# Altium schematic symbol library WCAP-ATET.SchLib: 72 symbols (part 2 of 2)
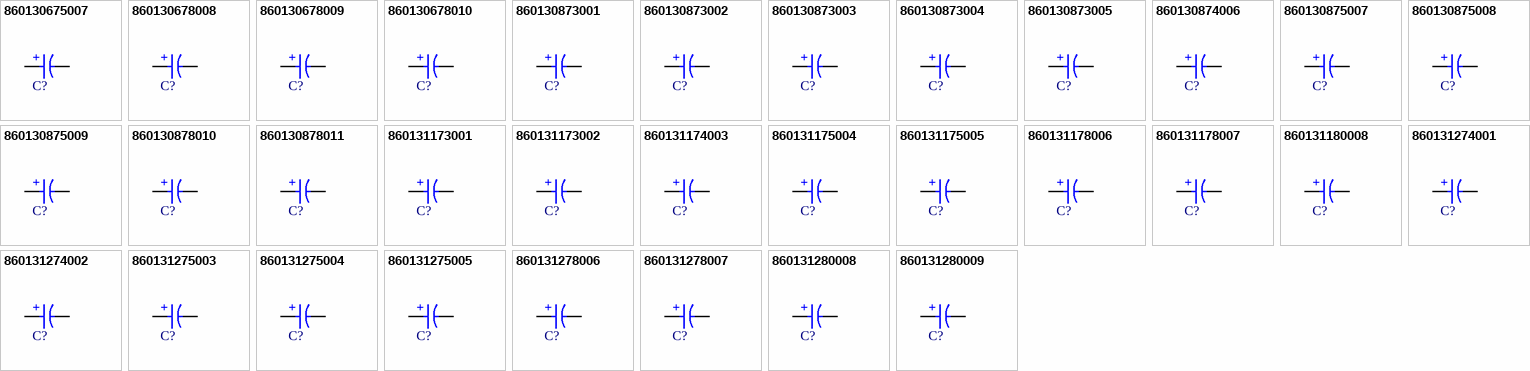
[diagram p2: symbols 860130675007 to 860131280009]

## 860130875008
designator C?, comment 33µF  (value not drawn)
WCAP-ATET Aluminum Electrolytic Capacitor, Radial, THT, D10 x H16mm, 33µF, 100V; Manufacturer Part Number: 860130875008; Manufacturer: Wurth Elektronik; Capacitance Tolerance: +/-20%; Dissipation Factor: 7%; Endurance: 2000h; Leakage Current: 33µA; Ripple Current: 140mA; Technical Reference: ATGF160330M100DSPAAB000; Category: Aluminum Electrolytic Capacitors; Match Code: WCAP-ATET; ComponentLink1Description: Website Link; ComponentLink1URL: https://www.we-online.com/redexpert/article/860130875008?ad; ComponentLink2Description: Datasheet Link; ComponentLink2URL: https://www.we-online.com/redexpert/spec/860130875008?ad; Mount: Through Hole; Operating Temperature Max: 125°C; Operating Temperature Min: -40°C; Packaging: Ammo Pack; Height: 16mm; Diameter: 10mm; Capacitance: 33µF; Rated Voltage (DC): 100V
footprint WCAP-ATET_D10H16
simulation model 860130875008_33uF
pins: 1 P, 2 N
text: +

## 860130875009
designator C?, comment 47µF  (value not drawn)
WCAP-ATET Aluminum Electrolytic Capacitor, Radial, THT, D10 x H25mm, 47µF, 100V; Manufacturer Part Number: 860130875009; Manufacturer: Wurth Elektronik; Capacitance Tolerance: +/-20%; Dissipation Factor: 7%; Endurance: 2000h; Leakage Current: 47µA; Ripple Current: 175mA; Technical Reference: ATGF250470M100DSPAAB000; Category: Aluminum Electrolytic Capacitors; Match Code: WCAP-ATET; ComponentLink1Description: Website Link; ComponentLink1URL: https://www.we-online.com/redexpert/article/860130875009?ad; ComponentLink2Description: Datasheet Link; ComponentLink2URL: https://www.we-online.com/redexpert/spec/860130875009?ad; Mount: Through Hole; Operating Temperature Max: 125°C; Operating Temperature Min: -40°C; Packaging: Ammo Pack; Height: 25mm; Diameter: 10mm; Capacitance: 47µF; Rated Voltage (DC): 100V
footprint WCAP-ATET_D10H25
simulation model 860130875009_47uF
pins: 1 P, 2 N
text: +

## 860130878010
designator C?, comment 47µF  (value not drawn)
WCAP-ATET Aluminum Electrolytic Capacitor, Radial, THT, D13 x H20mm, 47µF, 100V; Manufacturer Part Number: 860130878010; Manufacturer: Wurth Elektronik; Capacitance Tolerance: +/-20%; Dissipation Factor: 7%; Endurance: 2000h; Leakage Current: 47µA; Ripple Current: 185mA; Technical Reference: ATGI200470M100DSPACB000; Category: Aluminum Electrolytic Capacitors; Match Code: WCAP-ATET; ComponentLink1Description: Website Link; ComponentLink1URL: https://www.we-online.com/redexpert/article/860130878010?ad; ComponentLink2Description: Datasheet Link; ComponentLink2URL: https://www.we-online.com/redexpert/spec/860130878010?ad; Mount: Through Hole; Operating Temperature Max: 125°C; Operating Temperature Min: -40°C; Packaging: Ammo Pack; Height: 20mm; Diameter: 13mm; Capacitance: 47µF; Rated Voltage (DC): 100V
footprint WCAP-ATET_D13H20
simulation model 860130878010_47uF
pins: 1 P, 2 N
text: +

## 860130878011
designator C?, comment 100µF  (value not drawn)
WCAP-ATET Aluminum Electrolytic Capacitor, Radial, THT, D13 x H25mm, 100µF, 100V; Manufacturer Part Number: 860130878011; Manufacturer: Wurth Elektronik; Capacitance Tolerance: +/-20%; Dissipation Factor: 7%; Endurance: 2000h; Leakage Current: 100µA; Ripple Current: 270mA; Technical Reference: ATGI250101M100DSPACB000; Category: Aluminum Electrolytic Capacitors; Match Code: WCAP-ATET; ComponentLink1Description: Website Link; ComponentLink1URL: https://www.we-online.com/redexpert/article/860130878011?ad; ComponentLink2Description: Datasheet Link; ComponentLink2URL: https://www.we-online.com/redexpert/spec/860130878011?ad; Mount: Through Hole; Operating Temperature Max: 125°C; Operating Temperature Min: -40°C; Packaging: Ammo Pack; Height: 25mm; Diameter: 13mm; Capacitance: 100µF; Rated Voltage (DC): 100V
footprint WCAP-ATET_D13H25
simulation model 860130878011_100uF
pins: 1 P, 2 N
text: +

## 860131173001
designator C?, comment 1µF  (value not drawn)
WCAP-ATET Aluminum Electrolytic Capacitor, Radial, THT, D6.3 x H11mm, 1µF, 250V; Manufacturer Part Number: 860131173001; Manufacturer: Wurth Elektronik; Capacitance Tolerance: +/-20%; Dissipation Factor: 10%; Endurance: 1000h; Leakage Current: 5µA; Ripple Current: 41mA; Technical Reference: ATCD110010M250DSPA4A000; Category: Aluminum Electrolytic Capacitors; Match Code: WCAP-ATET; ComponentLink1Description: Website Link; ComponentLink1URL: https://www.we-online.com/redexpert/article/860131173001?ad; ComponentLink2Description: Datasheet Link; ComponentLink2URL: https://www.we-online.com/redexpert/spec/860131173001?ad; Mount: Through Hole; Operating Temperature Max: 105°C; Operating Temperature Min: -25°C; Packaging: Ammo Pack; Height: 11mm; Diameter: 6.3mm; Capacitance: 1µF; Rated Voltage (DC): 250V
footprint WCAP-ATET_D6.3H11
simulation model 860131173001_1uF
pins: 1 P, 2 N
text: +

## 860131173002
designator C?, comment 2.2µF  (value not drawn)
WCAP-ATET Aluminum Electrolytic Capacitor, Radial, THT, D6.3 x H11mm, 2.2µF, 250V; Manufacturer Part Number: 860131173002; Manufacturer: Wurth Elektronik; Capacitance Tolerance: +/-20%; Dissipation Factor: 10%; Endurance: 1000h; Leakage Current: 11µA; Ripple Current: 42mA; Technical Reference: ATCD1102R2M250DSPA4A000; Category: Aluminum Electrolytic Capacitors; Match Code: WCAP-ATET; ComponentLink1Description: Website Link; ComponentLink1URL: https://www.we-online.com/redexpert/article/860131173002?ad; ComponentLink2Description: Datasheet Link; ComponentLink2URL: https://www.we-online.com/redexpert/spec/860131173002?ad; Mount: Through Hole; Operating Temperature Max: 105°C; Operating Temperature Min: -25°C; Packaging: Ammo Pack; Height: 11mm; Diameter: 6.3mm; Capacitance: 2.2µF; Rated Voltage (DC): 250V
footprint WCAP-ATET_D6.3H11
simulation model 860131173002_2.2uF
pins: 1 P, 2 N
text: +

## 860131174003
designator C?, comment 3.3µF  (value not drawn)
WCAP-ATET Aluminum Electrolytic Capacitor, Radial, THT, D8 x H11.5mm, 3.3µF, 250V; Manufacturer Part Number: 860131174003; Manufacturer: Wurth Elektronik; Capacitance Tolerance: +/-20%; Dissipation Factor: 10%; Endurance: 1000h; Leakage Current: 16.5µA; Ripple Current: 50mA; Technical Reference: ATCE1153R3M250DSPA7A000; Category: Aluminum Electrolytic Capacitors; Match Code: WCAP-ATET; ComponentLink1Description: Website Link; ComponentLink1URL: https://www.we-online.com/redexpert/article/860131174003?ad; ComponentLink2Description: Datasheet Link; ComponentLink2URL: https://www.we-online.com/redexpert/spec/860131174003?ad; Mount: Through Hole; Operating Temperature Max: 105°C; Operating Temperature Min: -25°C; Packaging: Ammo Pack; Height: 11.5mm; Diameter: 8mm; Capacitance: 3.3µF; Rated Voltage (DC): 250V
footprint WCAP-ATET_D8H11.5
simulation model 860131174003_3.3uF
pins: 1 P, 2 N
text: +

## 860131175004
designator C?, comment 4.7µF  (value not drawn)
WCAP-ATET Aluminum Electrolytic Capacitor, Radial, THT, D10 x H12.5mm, 4.7µF, 250V; Manufacturer Part Number: 860131175004; Manufacturer: Wurth Elektronik; Capacitance Tolerance: +/-20%; Dissipation Factor: 10%; Endurance: 2000h; Leakage Current: 23.5µA; Ripple Current: 60mA; Technical Reference: ATCF1254R7M250DSPA9B000; Category: Aluminum Electrolytic Capacitors; Match Code: WCAP-ATET; ComponentLink1Description: Website Link; ComponentLink1URL: https://www.we-online.com/redexpert/article/860131175004?ad; ComponentLink2Description: Datasheet Link; ComponentLink2URL: https://www.we-online.com/redexpert/spec/860131175004?ad; Mount: Through Hole; Operating Temperature Max: 105°C; Operating Temperature Min: -25°C; Packaging: Ammo Pack; Height: 12.5mm; Diameter: 10mm; Capacitance: 4.7µF; Rated Voltage (DC): 250V
footprint WCAP-ATET_D10H12.5
simulation model 860131175004_4.7uF
pins: 1 P, 2 N
text: +

## 860131175005
designator C?, comment 10µF  (value not drawn)
WCAP-ATET Aluminum Electrolytic Capacitor, Radial, THT, D10 x H16mm, 10µF, 250V; Manufacturer Part Number: 860131175005; Manufacturer: Wurth Elektronik; Capacitance Tolerance: +/-20%; Dissipation Factor: 10%; Endurance: 2000h; Leakage Current: 50µA; Ripple Current: 83mA; Technical Reference: ATCF160100M250DSPAAB000; Category: Aluminum Electrolytic Capacitors; Match Code: WCAP-ATET; ComponentLink1Description: Website Link; ComponentLink1URL: https://www.we-online.com/redexpert/article/860131175005?ad; ComponentLink2Description: Datasheet Link; ComponentLink2URL: https://www.we-online.com/redexpert/spec/860131175005?ad; Mount: Through Hole; Operating Temperature Max: 105°C; Operating Temperature Min: -25°C; Packaging: Ammo Pack; Height: 16mm; Diameter: 10mm; Capacitance: 10µF; Rated Voltage (DC): 250V
footprint WCAP-ATET_D10H16
simulation model 860131175005_10uF
pins: 1 P, 2 N
text: +

## 860131178006
designator C?, comment 22µF  (value not drawn)
WCAP-ATET Aluminum Electrolytic Capacitor, Radial, THT, D13 x H20mm, 22µF, 250V; Manufacturer Part Number: 860131178006; Manufacturer: Wurth Elektronik; Capacitance Tolerance: +/-20%; Dissipation Factor: 10%; Endurance: 2000h; Leakage Current: 110µA; Ripple Current: 145mA; Technical Reference: ATCI200220M250DSPACB000; Category: Aluminum Electrolytic Capacitors; Match Code: WCAP-ATET; ComponentLink1Description: Website Link; ComponentLink1URL: https://www.we-online.com/redexpert/article/860131178006?ad; ComponentLink2Description: Datasheet Link; ComponentLink2URL: https://www.we-online.com/redexpert/spec/860131178006?ad; Mount: Through Hole; Operating Temperature Max: 105°C; Operating Temperature Min: -25°C; Packaging: Ammo Pack; Height: 20mm; Diameter: 13mm; Capacitance: 22µF; Rated Voltage (DC): 250V
footprint WCAP-ATET_D13H20
simulation model 860131178006_22uF
pins: 1 P, 2 N
text: +

## 860131178007
designator C?, comment 33µF  (value not drawn)
WCAP-ATET Aluminum Electrolytic Capacitor, Radial, THT, D13 x H25mm, 33µF, 250V; Manufacturer Part Number: 860131178007; Manufacturer: Wurth Elektronik; Capacitance Tolerance: +/-20%; Dissipation Factor: 10%; Endurance: 2000h; Leakage Current: 165µA; Ripple Current: 164mA; Technical Reference: ATCI250330M250DSPACB000; Category: Aluminum Electrolytic Capacitors; Match Code: WCAP-ATET; ComponentLink1Description: Website Link; ComponentLink1URL: https://www.we-online.com/redexpert/article/860131178007?ad; ComponentLink2Description: Datasheet Link; ComponentLink2URL: https://www.we-online.com/redexpert/spec/860131178007?ad; Mount: Through Hole; Operating Temperature Max: 105°C; Operating Temperature Min: -25°C; Packaging: Ammo Pack; Height: 25mm; Diameter: 13mm; Capacitance: 33µF; Rated Voltage (DC): 250V
footprint WCAP-ATET_D13H25
simulation model 860131178007_33uF
pins: 1 P, 2 N
text: +

## 860131180008
designator C?, comment 47µF  (value not drawn)
WCAP-ATET Aluminum Electrolytic Capacitor, Radial, THT, D16 x H25mm, 47µF, 250V; Manufacturer Part Number: 860131180008; Manufacturer: Wurth Elektronik; Capacitance Tolerance: +/-20%; Dissipation Factor: 10%; Endurance: 2000h; Leakage Current: 235µA; Ripple Current: 205mA; Technical Reference: ATCK250470M250DSPAEB000; Category: Aluminum Electrolytic Capacitors; Match Code: WCAP-ATET; ComponentLink1Description: Website Link; ComponentLink1URL: https://www.we-online.com/redexpert/article/860131180008?ad; ComponentLink2Description: Datasheet Link; ComponentLink2URL: https://www.we-online.com/redexpert/spec/860131180008?ad; Mount: Through Hole; Operating Temperature Max: 105°C; Operating Temperature Min: -25°C; Packaging: Ammo Pack; Height: 25mm; Diameter: 16mm; Capacitance: 47µF; Rated Voltage (DC): 250V
footprint WCAP-ATET_D16H25
simulation model 860131180008_47uF
pins: 1 P, 2 N
text: +

## 860131274001
designator C?, comment 1µF  (value not drawn)
WCAP-ATET Aluminum Electrolytic Capacitor, Radial, THT, D8 x H11.5mm, 1µF, 350V; Manufacturer Part Number: 860131274001; Manufacturer: Wurth Elektronik; Capacitance Tolerance: +/-20%; Dissipation Factor: 12%; Endurance: 1000h; Leakage Current: 7µA; Ripple Current: 45mA; Technical Reference: ATCE115010M350DSPA7A000; Category: Aluminum Electrolytic Capacitors; Match Code: WCAP-ATET; ComponentLink1Description: Website Link; ComponentLink1URL: https://www.we-online.com/redexpert/article/860131274001?ad; ComponentLink2Description: Datasheet Link; ComponentLink2URL: https://www.we-online.com/redexpert/spec/860131274001?ad; Mount: Through Hole; Operating Temperature Max: 105°C; Operating Temperature Min: -25°C; Packaging: Ammo Pack; Height: 11.5mm; Diameter: 8mm; Capacitance: 1µF; Rated Voltage (DC): 350V
footprint WCAP-ATET_D8H11.5
simulation model 860131274001_1uF
pins: 1 P, 2 N
text: +

## 860131274002
designator C?, comment 2.2µF  (value not drawn)
WCAP-ATET Aluminum Electrolytic Capacitor, Radial, THT, D8 x H11.5mm, 2.2µF, 350V; Manufacturer Part Number: 860131274002; Manufacturer: Wurth Elektronik; Capacitance Tolerance: +/-20%; Dissipation Factor: 12%; Endurance: 1000h; Leakage Current: 15.4µA; Ripple Current: 47mA; Technical Reference: ATCE1152R2M350DSPA7A000; Category: Aluminum Electrolytic Capacitors; Match Code: WCAP-ATET; ComponentLink1Description: Website Link; ComponentLink1URL: https://www.we-online.com/redexpert/article/860131274002?ad; ComponentLink2Description: Datasheet Link; ComponentLink2URL: https://www.we-online.com/redexpert/spec/860131274002?ad; Mount: Through Hole; Operating Temperature Max: 105°C; Operating Temperature Min: -25°C; Packaging: Ammo Pack; Height: 11.5mm; Diameter: 8mm; Capacitance: 2.2µF; Rated Voltage (DC): 350V
footprint WCAP-ATET_D8H11.5
simulation model 860131274002_2.2uF
pins: 1 P, 2 N
text: +

## 860131275003
designator C?, comment 3.3µF  (value not drawn)
WCAP-ATET Aluminum Electrolytic Capacitor, Radial, THT, D10 x H12.5mm, 3.3µF, 350V; Manufacturer Part Number: 860131275003; Manufacturer: Wurth Elektronik; Capacitance Tolerance: +/-20%; Dissipation Factor: 12%; Endurance: 2000h; Leakage Current: 23.1µA; Ripple Current: 55mA; Technical Reference: ATCF1253R3M350DSPA9B000; Category: Aluminum Electrolytic Capacitors; Match Code: WCAP-ATET; ComponentLink1Description: Website Link; ComponentLink1URL: https://www.we-online.com/redexpert/article/860131275003?ad; ComponentLink2Description: Datasheet Link; ComponentLink2URL: https://www.we-online.com/redexpert/spec/860131275003?ad; Mount: Through Hole; Operating Temperature Max: 105°C; Operating Temperature Min: -25°C; Packaging: Ammo Pack; Height: 12.5mm; Diameter: 10mm; Capacitance: 3.3µF; Rated Voltage (DC): 350V
footprint WCAP-ATET_D10H12.5
simulation model 860131275003_3.3uF
pins: 1 P, 2 N
text: +

## 860131275004
designator C?, comment 4.7µF  (value not drawn)
WCAP-ATET Aluminum Electrolytic Capacitor, Radial, THT, D10 x H16mm, 4.7µF, 350V; Manufacturer Part Number: 860131275004; Manufacturer: Wurth Elektronik; Capacitance Tolerance: +/-20%; Dissipation Factor: 12%; Endurance: 2000h; Leakage Current: 32.9µA; Ripple Current: 68mA; Technical Reference: ATCF1604R7M350DSPAAB000; Category: Aluminum Electrolytic Capacitors; Match Code: WCAP-ATET; ComponentLink1Description: Website Link; ComponentLink1URL: https://www.we-online.com/redexpert/article/860131275004?ad; ComponentLink2Description: Datasheet Link; ComponentLink2URL: https://www.we-online.com/redexpert/spec/860131275004?ad; Mount: Through Hole; Operating Temperature Max: 105°C; Operating Temperature Min: -25°C; Packaging: Ammo Pack; Height: 16mm; Diameter: 10mm; Capacitance: 4.7µF; Rated Voltage (DC): 350V
footprint WCAP-ATET_D10H16
simulation model 860131275004_4.7uF
pins: 1 P, 2 N
text: +

## 860131275005
designator C?, comment 10µF  (value not drawn)
WCAP-ATET Aluminum Electrolytic Capacitor, Radial, THT, D10 x H25mm, 10µF, 350V; Manufacturer Part Number: 860131275005; Manufacturer: Wurth Elektronik; Capacitance Tolerance: +/-20%; Dissipation Factor: 12%; Endurance: 2000h; Leakage Current: 70µA; Ripple Current: 105mA; Technical Reference: ATCF250100M350DSPAAB000; Category: Aluminum Electrolytic Capacitors; Match Code: WCAP-ATET; ComponentLink1Description: Website Link; ComponentLink1URL: https://www.we-online.com/redexpert/article/860131275005?ad; ComponentLink2Description: Datasheet Link; ComponentLink2URL: https://www.we-online.com/redexpert/spec/860131275005?ad; Mount: Through Hole; Operating Temperature Max: 105°C; Operating Temperature Min: -25°C; Packaging: Ammo Pack; Height: 25mm; Diameter: 10mm; Capacitance: 10µF; Rated Voltage (DC): 350V
footprint WCAP-ATET_D10H25
simulation model 860131275005_10uF
pins: 1 P, 2 N
text: +

## 860131278006
designator C?, comment 10µF  (value not drawn)
WCAP-ATET Aluminum Electrolytic Capacitor, Radial, THT, D13 x H20mm, 10µF, 350V; Manufacturer Part Number: 860131278006; Manufacturer: Wurth Elektronik; Capacitance Tolerance: +/-20%; Dissipation Factor: 12%; Endurance: 2000h; Leakage Current: 70µA; Ripple Current: 110mA; Technical Reference: ATCI200100M350DSPACB000; Category: Aluminum Electrolytic Capacitors; Match Code: WCAP-ATET; ComponentLink1Description: Website Link; ComponentLink1URL: https://www.we-online.com/redexpert/article/860131278006?ad; ComponentLink2Description: Datasheet Link; ComponentLink2URL: https://www.we-online.com/redexpert/spec/860131278006?ad; Mount: Through Hole; Operating Temperature Max: 105°C; Operating Temperature Min: -25°C; Packaging: Ammo Pack; Height: 20mm; Diameter: 13mm; Capacitance: 10µF; Rated Voltage (DC): 350V
footprint WCAP-ATET_D13H20
simulation model 860131278006_10uF
pins: 1 P, 2 N
text: +

## 860131278007
designator C?, comment 22µF  (value not drawn)
WCAP-ATET Aluminum Electrolytic Capacitor, Radial, THT, D13 x H25mm, 22µF, 350V; Manufacturer Part Number: 860131278007; Manufacturer: Wurth Elektronik; Capacitance Tolerance: +/-20%; Dissipation Factor: 12%; Endurance: 2000h; Leakage Current: 154µA; Ripple Current: 160mA; Technical Reference: ATCI250220M350DSPACB000; Category: Aluminum Electrolytic Capacitors; Match Code: WCAP-ATET; ComponentLink1Description: Website Link; ComponentLink1URL: https://www.we-online.com/redexpert/article/860131278007?ad; ComponentLink2Description: Datasheet Link; ComponentLink2URL: https://www.we-online.com/redexpert/spec/860131278007?ad; Mount: Through Hole; Operating Temperature Max: 105°C; Operating Temperature Min: -25°C; Packaging: Ammo Pack; Height: 25mm; Diameter: 13mm; Capacitance: 22µF; Rated Voltage (DC): 350V
footprint WCAP-ATET_D13H25
simulation model 860131278007_22uF
pins: 1 P, 2 N
text: +

## 860131280008
designator C?, comment 33µF  (value not drawn)
WCAP-ATET Aluminum Electrolytic Capacitor, Radial, THT, D16 x H25mm, 33µF, 350V; Manufacturer Part Number: 860131280008; Manufacturer: Wurth Elektronik; Capacitance Tolerance: +/-20%; Dissipation Factor: 12%; Endurance: 2000h; Leakage Current: 231µA; Ripple Current: 180mA; Technical Reference: ATCK250330M350DSPAEB000; Category: Aluminum Electrolytic Capacitors; Match Code: WCAP-ATET; ComponentLink1Description: Website Link; ComponentLink1URL: https://www.we-online.com/redexpert/article/860131280008?ad; ComponentLink2Description: Datasheet Link; ComponentLink2URL: https://www.we-online.com/redexpert/spec/860131280008?ad; Mount: Through Hole; Operating Temperature Max: 105°C; Operating Temperature Min: -25°C; Packaging: Ammo Pack; Height: 25mm; Diameter: 16mm; Capacitance: 33µF; Rated Voltage (DC): 350V
footprint WCAP-ATET_D16H25
simulation model 860131280008_33uF
pins: 1 P, 2 N
text: +

## 860131280009
designator C?, comment 47µF  (value not drawn)
WCAP-ATET Aluminum Electrolytic Capacitor, Radial, THT, D16 x H31.5mm, 47µF, 350V; Manufacturer Part Number: 860131280009; Manufacturer: Wurth Elektronik; Capacitance Tolerance: +/-20%; Dissipation Factor: 12%; Endurance: 2000h; Leakage Current: 329µA; Ripple Current: 230mA; Technical Reference: ATCK315470M350DSPADB000; Category: Aluminum Electrolytic Capacitors; Match Code: WCAP-ATET; ComponentLink1Description: Website Link; ComponentLink1URL: https://www.we-online.com/redexpert/article/860131280009?ad; ComponentLink2Description: Datasheet Link; ComponentLink2URL: https://www.we-online.com/redexpert/spec/860131280009?ad; Mount: Through Hole; Operating Temperature Max: 105°C; Operating Temperature Min: -25°C; Packaging: Ammo Pack; Height: 31.5mm; Diameter: 16mm; Capacitance: 47µF; Rated Voltage (DC): 350V
footprint WCAP-ATET_D16H31.5
simulation model 860131280009_47uF
pins: 1 P, 2 N
text: +